# EAGLE library part 1751581 (library 1751581)
FFKDSA1/V1-5,08-10 - Printed circuit board terminal, nominal current: 15 A, rated voltage (III/2): 400 V, nominal cross section: 1.5 mm2, number of potentials: 10, number of rows: 1, number of positions per row: 10, product range: FFKDS(A)/V1, pitch: 5.08 mm, connection method: Push-in spring connection, mounting: Wave soldering, conductor/PCB connection direction: 90 , color: green, Pin layout: Linear pinning, Solder pin [P]: 3.4 mm, number of solder pins per potential: 2, type of packaging: pa Source: Datasheet <https://www.phoenixcontact.com/en-us/products/printed-circuit-board-terminal-ffkdsa1v1-508-10-1751581?type=pdf>
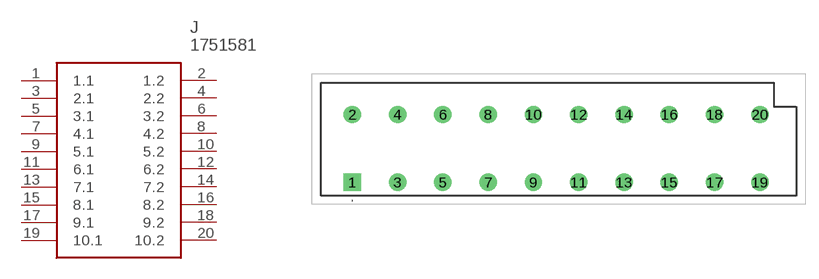
[diagram p0: symbol with the pads of 1751581; footprint 1751581]

Designator prefix J

## 1751581 (Description: FFKDSA1/V1-5,08-10 - Printed circuit board terminal, nominal current: 15 A, rated voltage (III/2): 400 V, nominal cross section: 1.5 mm<sup>2</sup>, number of potentials: 10, number of rows: 1, number of positions per row: 10, product range: FFKDS(A)/V1, pitch: 5.08 mm, connection method: Push-in spring connection, mounting: Wave soldering, conductor/PCB connection direction: 90 , color: green, Pin layout: Linear pinning, Solder pin [P]: 3.4 mm, number of solder pins per potential: 2, type of packaging: pa; Height: 13.6mm; Manufacturer_Name: Phoenix Contact; Manufacturer_Part_Number: 1751581; Mouser_Part_Number: 651-1751581; Mouser_Price-Stock: https://www.mouser.co.uk/ProductDetail/Phoenix-Contact/1751581?qs=5SfROSHwb7CCaVxuhSvzeQ%3D%3D)  [1751581]
1  1.1
2  1.2
3  2.1
4  2.2
5  3.1
6  3.2
7  4.1
8  4.2
9  5.1
10  5.2
11  6.1
12  6.2
13  7.1
14  7.2
15  8.1
16  8.2
17  9.1
18  9.2
19  10.1
20  10.2

## Footprint 1751581 (pad centres in mm)
1751581-2
drill 1.3 pad 1.95 square: 1 0,0
drill 1.3 pad 1.95: 2 0,7.62; 3 5.08,0; 4 5.08,7.62; 5 10.16,0; 6 10.16,7.62; 7 15.24,0; 8 15.24,7.62; 9 20.32,0; 10 20.32,7.62; 11 25.4,0; 12 25.4,7.62; 13 30.48,0; 14 30.48,7.62; 15 35.56,0; 16 35.56,7.62; 17 40.64,0; 18 40.64,7.62; 19 45.72,0; 20 45.72,7.62